# Altium footprint library SOD323.PcbLib: 1 footprints
Each footprint in its own frame and in the unit in brackets; x right, y up, seen from the top. Pads: shape width x height; smd on the part's side, far side on the other; paste and mask are expansions set on the pad; w line width, h text height; cw(c..) or ccw(c..) is an arc to the next point about the centre after c.
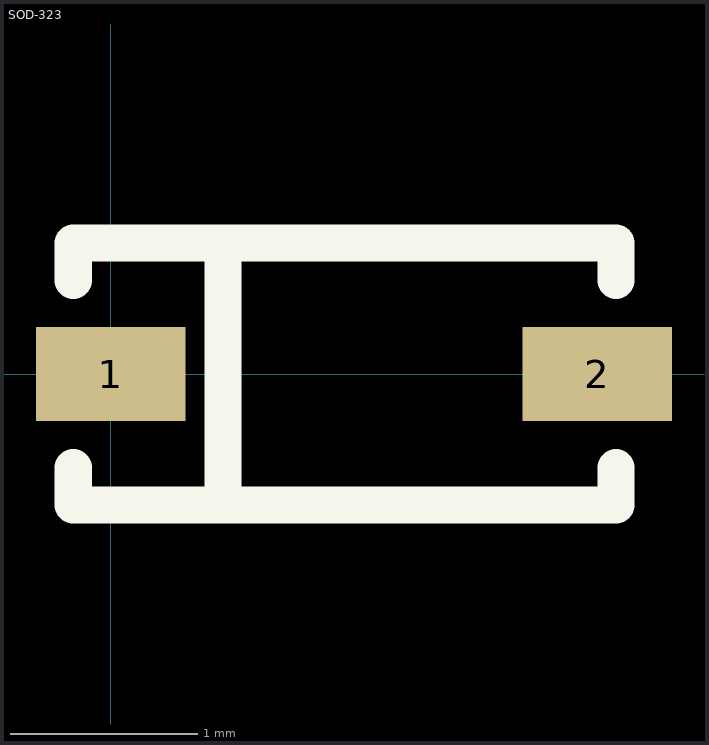
[diagram p0: the footprint, top view; thin cyan lines are the x and y axes]

## SOD-323 [mm]
pads (2):
  rect 0.8x0.5 smd: 1(0,0) 2(2.6,0)
Top Overlay:
  lines w0.2: -0.2,-0.5 -0.2,-0.7 2.7,-0.7 2.7,-0.5 ; -0.2,0.5 -0.2,0.7 2.7,0.7 2.7,0.5 ; 0.6,-0.7 0.6,0.7
3D body "SOD323.step": height 1.1, standoff 0, extent 0,-0.675 2.6,0.675